# EAGLE library part LT3028 (library IC)
Linear Technology LT3028 Dual 100mA/500mA Low Droupout, Low Noise, Micropower regulator in DHC16 (DFN)
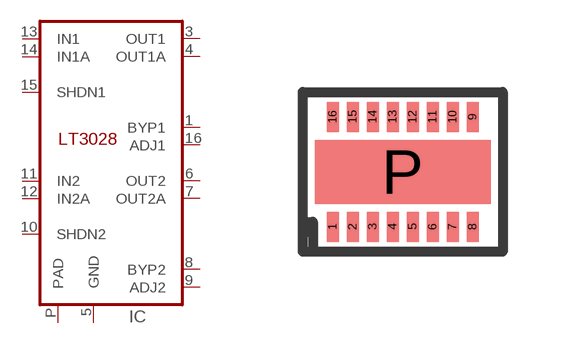
[diagram p141: symbol with the pads of DHC16; footprint DHC16]

Designator prefix IC

## LT3028  [DHC16]
1  BYP1
3  OUT1  out
4  OUT1A  out
5  GND
6  OUT2  out
7  OUT2A  out
8  BYP2
9  ADJ2
10  SHDN2
11  IN2  in
12  IN2A  in
13  IN1  in
14  IN1A  in
15  SHDN1
16  ADJ1
P  PAD

## Footprint DHC16 (pad centres in mm)
Linear Tech DHC16 (LTC3417)
smd 0.3 x 0.75: 1 -1.75,-1.375; 2 -1.25,-1.375; 3 -0.75,-1.375; 4 -0.25,-1.375; 5 0.25,-1.375; 6 0.75,-1.375; 7 1.25,-1.375; 8 1.75,-1.375; 9 1.75,1.375; 10 1.25,1.375; 11 0.75,1.375; 12 0.25,1.375; 13 -0.25,1.375; 14 -0.75,1.375; 15 -1.25,1.375; 16 -1.75,1.375
smd 4.4 x 1.6: P 0,0